# Altium footprint library PCB - CONNECTOR - OST - OST OSTTC080162.PcbLib: 1 footprints
Each footprint in its own frame and in the unit in brackets; x right, y up, seen from the top. Pads: shape width x height; smd on the part's side, far side on the other; paste and mask are expansions set on the pad; w line width, h text height; cw(c..) or ccw(c..) is an arc to the next point about the centre after c.
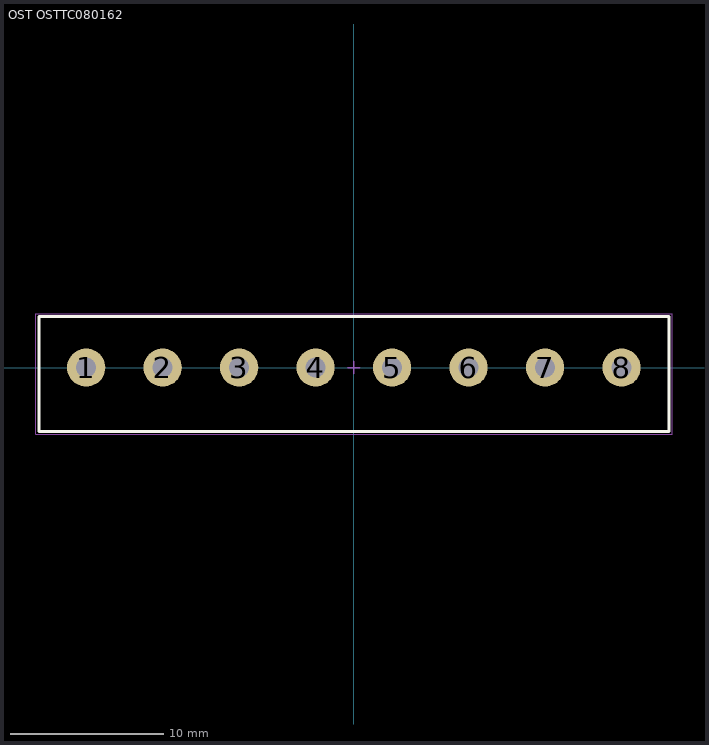
[diagram p0: the footprint, top view; thin cyan lines are the x and y axes]

## OST OSTTC080162 [mm] "Wire to Board Terminal Block Horizontal with Board, 8 Postions, Body 41.2x7.5mm, Pitch 5mm"
height 10.3
pads (8):
  round 2.5 hole 1.3: 1(-17.5,0) 2(-12.5,0) 3(-7.5,0) 4(-2.5,0) 5(2.5,0) 6(7.5,0) 7(12.5,0) 8(17.5,0)
Top Overlay:
  lines w0.2: -20.591,-4.172 20.609,-4.172 20.609,3.328 -20.591,3.328 -20.591,-4.172
Mechanical 13:
  lines w0.1: -20.591,-4.172 -20.591,3.328 20.609,3.328 20.609,-4.172 -20.591,-4.172
Mechanical 15 (Mech15):
  lines w0.05: -20.791,-4.373 -20.791,3.527 20.809,3.527 20.809,-4.373 -20.791,-4.373
  lines w0.1: -0.4,0 0,0 ; 0,-0.4 0,0 ; 0,0.4 0,0 ; 0.4,0 0,0
3D body "OST - OSTTC080162.stp": height 10.3, standoff -3.8, extent -20.591,-4.173 20.609,3.327